# Altium schematic symbol library 智能饮水机.SchLib: 13 symbols
Pins are listed as number, name and electrical type; pins without a type are passive.

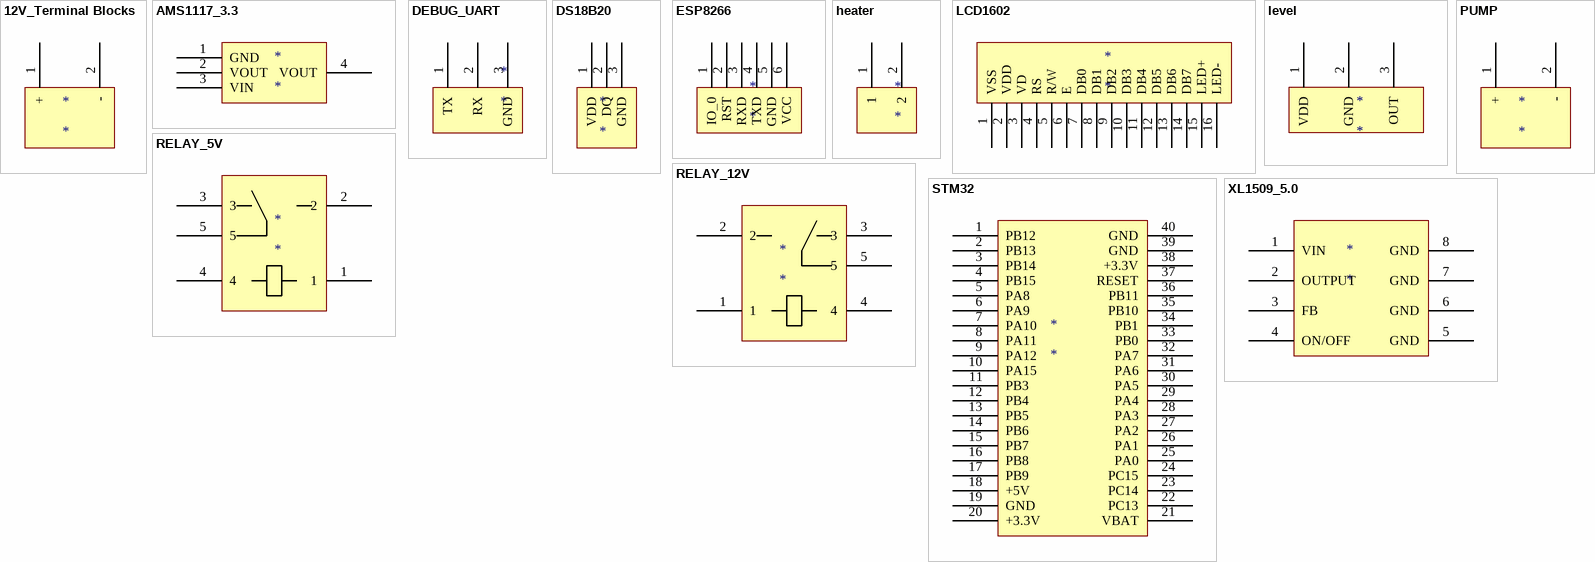
[diagram p0: symbols 12V_Terminal Blocks to XL1509_5.0]

## 12V_Terminal Blocks
designator *
pins: 1 +, 2 -

## AMS1117_3.3
designator *
pins: 1 GND, 2 VOUT, 3 VIN, 4 VOUT

## DEBUG_UART
designator *
pins: 1 TX, 2 RX, 3 GND

## DS18B20
designator *
pins: 1 VDD, 2 DQ, 3 GND

## ESP8266
designator *
pins: 1 IO_0, 2 RST, 3 RXD, 4 TXD, 5 GND, 6 VCC

## heater
designator *
pins: 1, 2

## LCD1602
designator *
pins: 1 VSS, 2 VDD, 3 VD, 4 RS, 5 R/W, 6 E, 7 DB0, 8 DB1, 9 DB2, 10 DB3, 11 DB4, 12 DB5, 13 DB6, 14 DB7, 15 LED+, 16 LED-

## level
designator *
pins: 1 VDD, 2 GND, 3 OUT

## PUMP
designator *
pins: 1 +, 2 -

## RELAY_5V
designator *
pins: 1, 2, 3, 4, 5

## RELAY_12V
designator *
pins: 1, 2, 3, 4, 5

## STM32
designator *
pins: 1 PB12, 2 PB13, 3 PB14, 4 PB15, 5 PA8, 6 PA9, 7 PA10, 8 PA11, 9 PA12, 10 PA15, 11 PB3, 12 PB4, 13 PB5, 14 PB6, 15 PB7, 16 PB8, 17 PB9, 18 +5V, 19 GND, 20 +3.3V, 21 VBAT, 22 PC13, 23 PC14, 24 PC15, 25 PA0, 26 PA1, 27 PA2, 28 PA3, 29 PA4, 30 PA5, 31 PA6, 32 PA7, 33 PB0, 34 PB1, 35 PB10, 36 PB11, 37 RESET, 38 +3.3V, 39 GND, 40 GND

## XL1509_5.0
designator *
pins: 1 VIN, 2 OUTPUT, 3 FB, 4 ON/OFF, 5 GND, 6 GND, 7 GND, 8 GND